# EAGLE library part ICSP_HEADER (library ssir)
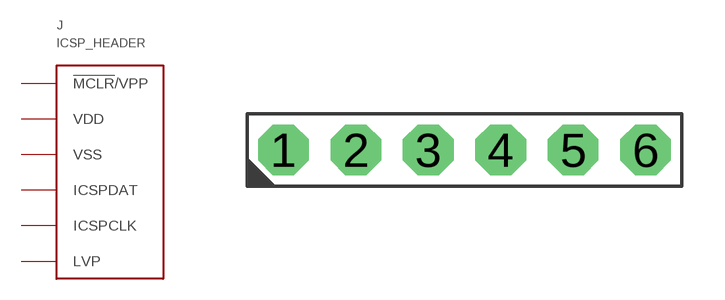
[diagram p1: symbol with the pads of HEADER_6P; footprint HEADER_6P]

Designator prefix J

## ICSP_HEADER  [HEADER_6P]
1  !MCLR!/VPP
2  VDD
3  VSS
4  ICSPDAT
5  ICSPCLK
6  LVP

## Footprint HEADER_6P (pad centres in mm)
drill 1 pad 1.778 octagon: 1 -6.35,0; 2 -3.81,0; 3 -1.27,0; 4 1.27,0; 5 3.81,0; 6 6.35,0